# Altium schematic symbol library 数码管.SchLib: 15 symbols
Pins are listed as number, name and electrical type; pins without a type are passive.

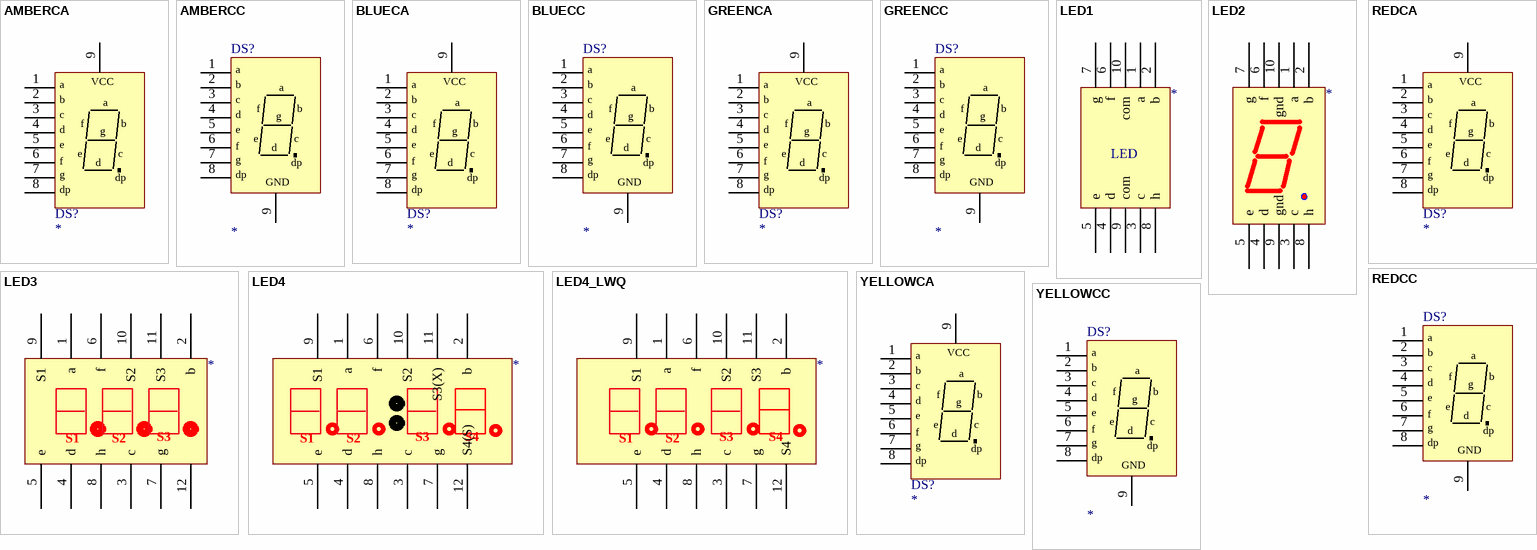
[diagram p0: symbols AMBERCA to YELLOWCC]

## AMBERCA
designator DS?
Common Anode Seven-Segment Display, Right Hand Decimal
simulation model AMBERCA (SUBCKT)
pins: 1 a, 2 b, 3 c, 4 d, 5 e, 6 f, 7 g, 8 dp, 9 VCC

## AMBERCC
designator DS?
Common Cathhode Seven-Segment Display, Right Hand Decimal
simulation model AMBERCC (SUBCKT)
pins: 1 a, 2 b, 3 c, 4 d, 5 e, 6 f, 7 g, 8 dp, 9 GND

## BLUECA
designator DS?
Common Anode Seven-Segment Display, Right Hand Decimal
simulation model BLUECA (SUBCKT)
pins: 1 a, 2 b, 3 c, 4 d, 5 e, 6 f, 7 g, 8 dp, 9 VCC

## BLUECC
designator DS?
Common Cathhode Seven-Segment Display, Right Hand Decimal
simulation model BLUECC (SUBCKT)
pins: 1 a, 2 b, 3 c, 4 d, 5 e, 6 f, 7 g, 8 dp, 9 GND

## GREENCA
designator DS?
Common Anode Seven-Segment Display, Right Hand Decimal
simulation model GREENCA (SUBCKT)
pins: 1 a, 2 b, 3 c, 4 d, 5 e, 6 f, 7 g, 8 dp, 9 VCC

## GREENCC
designator DS?
Common Cathhode Seven-Segment Display, Right Hand Decimal
simulation model GREENCC (SUBCKT)
pins: 1 a, 2 b, 3 c, 4 d, 5 e, 6 f, 7 g, 8 dp, 9 GND

## LED1
designator ?
pins: 1 a, 2 b, 3 c, 4 d, 5 e, 6 f, 7 g, 8 h, 9 com, 10 com
text: LED

## LED2
designator ?
pins: 1 a, 2 b, 3 c, 4 d, 5 e, 6 f, 7 g, 8 h, 9 gnd, 10 gnd

## LED3
designator ?
pins: 1 a, 2 b, 3 c, 4 d, 5 e, 6 f, 7 g, 8 h, 9 S1, 10 S2, 11 S3, 12

## LED4
designator ?
pins: 1 a, 2 b, 3 c, 4 d, 5 e, 6 f, 7 g, 8 h, 9 S1, 10 S2, 11 S3(X), 12 S4(S)
text: S3; S4

## LED4_LWQ
designator ?
pins: 1 a, 2 b, 3 c, 4 d, 5 e, 6 f, 7 g, 8 h, 9 S1, 10 S2, 11 S3, 12 S4

## REDCA
designator DS?
Common Anode Seven-Segment Display, Right Hand Decimal
simulation model REDCA (SUBCKT)
pins: 1 a, 2 b, 3 c, 4 d, 5 e, 6 f, 7 g, 8 dp, 9 VCC

## REDCC
designator DS?
Common Cathhode Seven-Segment Display, Right Hand Decimal
simulation model REDCC (SUBCKT)
pins: 1 a, 2 b, 3 c, 4 d, 5 e, 6 f, 7 g, 8 dp, 9 GND

## YELLOWCA
designator DS?
Common Anode Seven-Segment Display, Right Hand Decimal
simulation model YELLOWCA (SUBCKT)
pins: 1 a, 2 b, 3 c, 4 d, 5 e, 6 f, 7 g, 8 dp, 9 VCC

## YELLOWCC
designator DS?
Common Cathhode Seven-Segment Display, Right Hand Decimal
simulation model YELLOWCC (SUBCKT)
pins: 1 a, 2 b, 3 c, 4 d, 5 e, 6 f, 7 g, 8 dp, 9 GND